# Altium footprint library S7CAS_P07.PcbLib: 10 footprints
Each footprint in its own frame and in the unit in brackets; x right, y up, seen from the top. Pads: shape width x height; smd on the part's side, far side on the other; paste and mask are expansions set on the pad; w line width, h text height; cw(c..) or ccw(c..) is an arc to the next point about the centre after c.
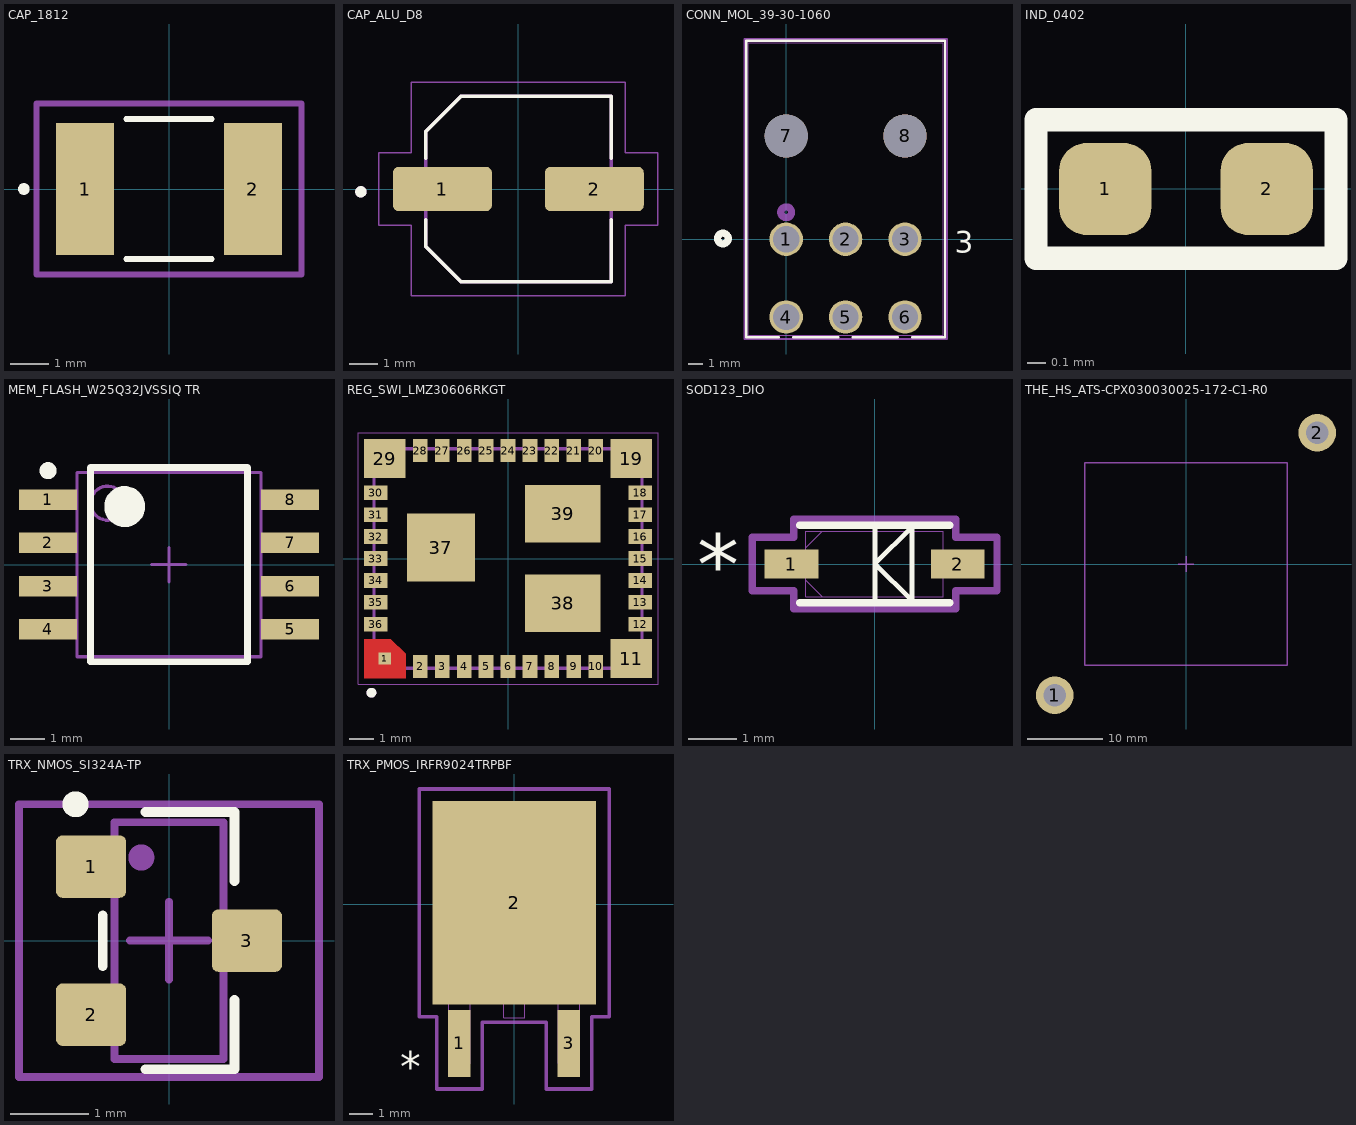
[diagram p0: the footprints below, top view; thin cyan lines are the x and y axes]

## CAP_1812 [mil]
pads (2):
  rect 60x136 smd paste+0 mask+0: 1(-86.5,0) 2(86.5,0)
Top Overlay:
  circle w6: c-149.5,0 r3
  lines w6: -44.03,-72 44.03,-72 ; -44.03,72 44.03,72
Mechanical 15:
  lines w6: -136.5,-88 -136.5,88 136.5,88 136.5,-88 -136.5,-88
3D body: height 10, standoff 0, extent 0,0 10,10
3D body "CAP_1812P_AVX.step": height 60, standoff 0, extent -94.49,-67.01 94.49,67.01

## CAP_ALU_D8 [mm] "Panasonic D8 can SMD"
pads (2):
  rrect25% 3.51x1.58 smd: 1(-2.7,0) 2(2.7,0)
Top Overlay:
  circle w0.2: c-5.6,-0.1 r0.1
  lines w0.127: -3.3,-1.1 -3.3,-2.04 -2.04,-3.3 3.3,-3.3 3.3,-1.1 ; -3.3,1.1 -3.3,2.04 -2.04,3.3 3.3,3.3 3.3,1.1
Mechanical 13:
  circle w0.2: c-5.6,-0.1 r0.1
  lines w0.127: -3.3,-2.04 -2.04,-3.3 3.3,-3.3 3.3,3.3 -2.04,3.3 -3.3,2.04 -3.3,-2.04
Mechanical 15:
  lines w0.05: -4.96,-1.29 -3.8,-1.29 -3.8,-3.8 3.8,-3.8 3.8,-1.29 4.96,-1.29 4.96,1.29 3.8,1.29 3.8,3.8 -3.8,3.8 -3.8,1.29 -4.96,1.29 -4.96,-1.29
3D body "EEE-FKC151XAP.STEP": height 7.95, standoff -0.05, extent -3.9,-3.3 3.9,3.3

## CONN_MOL_39-30-1060 [mil] "6pin MOLEX RA"
pads (8):
  round 93 hole 73 mask+0: 1(0,0) 2(165.35,0) 3(330.71,0) 4(0,-216.54) 5(165.35,-216.54) 6(330.71,-216.54)
  round 120 hole 120 unplated: 7(0,287.4) 8(330.71,287.4)
Top Overlay:
  circle w20: c-176.18,1.97 r15
  lines w6: -19.78,-272.76 -111.15,-272.76 -111.15,552.24 441.85,552.24 441.85,-272.76 350.49,-272.76 ; 19.78,-272.76 145.57,-272.76 ; 185.14,-272.76 310.92,-272.76
  text "3" at 469.65,-38.23 h60
Bottom Overlay:
  circle w20: c-176.18,1.97 r15
Mechanical 13:
  circle w20: c0,75 r15
  lines w1: -106.15,-267.76 436.85,-267.76 436.85,547.24 -106.15,547.24 -106.15,-267.76
Mechanical 15:
  lines w6: -116.15,-277.76 -116.15,557.24 446.85,557.24 446.85,-277.76 -116.15,-277.76
3D body: height 10, standoff 0, extent 0,0 10,10
3D body "39301060.stp": height 448.82, standoff -141.73, extent -122.05,-237.89 437.01,546.95

## IND_0402 [mil]
pads (2):
  rrect60% 20x20 smd: 1(-17.5,0) 2(17.5,0)
Top Overlay:
  lines w5: -32.5,-15 32.5,-15 32.5,15 -32.5,15 -32.5,-15
3D body "Ferrite0402.stp": height 20.08, standoff 0.39, extent -19.69,-10 19.69,9.69

## MEM_FLASH_W25Q32JVSSIQ TR [mm]
pads (8):
  rect 1.7x0.6 smd paste-0.05 mask+0.07: 1(-3.55,1.905) 2(-3.55,0.635) 3(-3.55,-0.635) 4(-3.55,-1.905) 5(3.55,-1.905) 6(3.55,-0.635) 7(3.55,0.635) 8(3.55,1.905)
Top Overlay:
  circle w0.6: c-1.3,1.7 r0.3
  circle w0.25: c-3.55,2.755 r0.125
  lines w0.2: -2.3,-2.85 2.3,-2.85 2.3,2.85 -2.3,2.85 -2.3,-2.85
Mechanical 1:
  circle w0.1: c-1.8,1.8 r0.5
  lines w0.1: -2.7,-2.7 -2.7,2.7 2.7,2.7 2.7,-2.7 -2.7,-2.7
Mechanical 15:
  lines w0.1: -0.5,0 0.5,0 ; 0,-0.5 0,0.5
3D body "SOIC127P790X216-8N.step": height 2.16, standoff 0, extent -3.95,-2.7 3.95,2.7

## REG_SWI_LMZ30606RKGT [mm] "LMZ30602RKGT"
pads (39):
  rect 0.5x0.5 smd paste-1 mask+0: 1(-5.05,-4.1)
  rect 0.6x0.95 smd paste-1 mask+0: 2(-3.6,-4.425) 3(-2.7,-4.425) 4(-1.8,-4.425) 5(-0.9,-4.425) 6(0,-4.425) 7(0.9,-4.425) 8(1.8,-4.425) 9(2.7,-4.425) 10(3.6,-4.425) 20(3.6,4.425) 21(2.7,4.425) 22(1.8,4.425) 23(0.9,4.425) 24(0,4.425) 25(-0.9,4.425) 26(-1.8,4.425) 27(-2.7,4.425) 28(-3.6,4.425)
  rect 1.7x1.6 smd paste-2 mask+0: 11(5.05,-4.1) 19(5.05,4.1) 29(-5.05,4.1)
  rect 0.95x0.6 smd paste-1 mask+0: 12(5.425,-2.7) 13(5.425,-1.8) 14(5.425,-0.9) 15(5.425,0) 16(5.425,0.9) 17(5.425,1.8) 18(5.425,2.7) 30(-5.425,2.7) 31(-5.425,1.8) 32(-5.425,0.9) 33(-5.425,0) 34(-5.425,-0.9) 35(-5.425,-1.8) 36(-5.425,-2.7)
  rect 2.8x2.8 smd paste-2 mask+0: 37(-2.75,0.45)
  rect 3.1x2.35 smd paste-3 mask+0: 38(2.25,-1.83) 39(2.25,1.84)
Top Layer:
  region: -4.2,-3.91 -4.2,-4.9 -5.9,-4.9 -5.9,-3.3 -4.81,-3.3
Top Overlay:
  circle w0.2: c-5.6,-5.5 r0.1
Top Paste:
  drawing of 50 lines, arcs and shapes, not listed
Top Solder:
  region: -4.13,-3.91 -4.13,-4.97 -5.97,-4.97 -5.97,-3.23 -4.81,-3.23
  region: -4.88,-3.07 -5.97,-3.07 -5.97,-2.33 -4.88,-2.33
  region: -4.88,-2.17 -5.97,-2.17 -5.97,-1.43 -4.88,-1.43
  region: -4.88,-1.27 -5.97,-1.27 -5.97,-0.53 -4.88,-0.53
  region: -4.88,-0.37 -5.97,-0.37 -5.97,0.37 -4.88,0.37
  region: -4.88,0.53 -5.97,0.53 -5.97,1.27 -4.88,1.27
  region: -4.88,1.43 -5.97,1.43 -5.97,2.17 -4.88,2.17
  region: -3.23,3.88 -3.97,3.88 -3.97,4.97 -3.23,4.97
  region: -2.33,3.88 -3.07,3.88 -3.07,4.97 -2.33,4.97
  region: -1.43,3.88 -2.17,3.88 -2.17,4.97 -1.43,4.97
  region: -0.53,3.88 -1.27,3.88 -1.27,4.97 -0.53,4.97
  region: 0.37,3.88 -0.37,3.88 -0.37,4.97 0.37,4.97
  region: 2.17,3.88 1.43,3.88 1.43,4.97 2.17,4.97
  region: 1.27,3.88 0.53,3.88 0.53,4.97 1.27,4.97
  region: 3.07,3.88 2.33,3.88 2.33,4.97 3.07,4.97
  region: -4.88,2.33 -5.97,2.33 -5.97,3.07 -4.88,3.07
  region: 3.97,3.88 3.23,3.88 3.23,4.97 3.97,4.97
  region: 5.97,2.33 4.88,2.33 4.88,3.07 5.97,3.07
  region: 5.97,1.43 4.88,1.43 4.88,2.17 5.97,2.17
  region: 5.97,0.53 4.88,0.53 4.88,1.27 5.97,1.27
  region: 5.97,-0.37 4.88,-0.37 4.88,0.37 5.97,0.37
  region: 5.97,-1.27 4.88,-1.27 4.88,-0.53 5.97,-0.53
  region: 5.97,-2.17 4.88,-2.17 4.88,-1.43 5.97,-1.43
  region: 3.97,-4.97 3.23,-4.97 3.23,-3.88 3.97,-3.88
  region: 3.07,-4.97 2.33,-4.97 2.33,-3.88 3.07,-3.88
  region: 2.17,-4.97 1.43,-4.97 1.43,-3.88 2.17,-3.88
  region: 1.27,-4.97 0.53,-4.97 0.53,-3.88 1.27,-3.88
  region: 0.37,-4.97 -0.37,-4.97 -0.37,-3.88 0.37,-3.88
  region: -1.43,-4.97 -2.17,-4.97 -2.17,-3.88 -1.43,-3.88
  region: -0.53,-4.97 -1.27,-4.97 -1.27,-3.88 -0.53,-3.88
  region: -2.33,-4.97 -3.07,-4.97 -3.07,-3.88 -2.33,-3.88
  region: 5.97,-4.97 4.13,-4.97 4.13,-3.23 5.97,-3.23
  region: 5.97,3.23 4.13,3.23 4.13,4.97 5.97,4.97
  region: -4.13,3.23 -5.97,3.23 -5.97,4.97 -4.13,4.97
  region: -1.95,-0.35 -3.55,-0.35 -3.55,1.25 -1.95,1.25
  region: 5.97,-3.07 4.88,-3.07 4.88,-2.33 5.97,-2.33
  region: -3.23,-4.97 -3.97,-4.97 -3.97,-3.88 -3.23,-3.88
Mechanical 13:
  circle w0.2: c-5.6,-5.5 r0.1
  lines w0.127: -5.5,-4.5 -5.5,4.5 5.5,4.5 5.5,-4.5 -5.5,-4.5
Mechanical 15:
  lines w0.05: -6.15,-5.15 -6.15,5.15 6.15,5.15 6.15,-5.15 -6.15,-5.15
3D body "step_temp.STEP": height 2.9, standoff 0, extent -5.5,-4.5 5.5,4.5

## SOD123_DIO [mm]
pads (2):
  rect 1.111x0.601 smd paste+0 mask+0: 1(-1.725,0) 2(1.725,0)
Top Overlay:
  lines w0.1: 0.005,-0.797 0.005,0.797 0,0.802 0,0.009 0.775,-0.766 ; 0.775,-0.766 0.775,0.775 0.005,0.005 0.775,-0.766
  lines w0.152: -1.552,-0.802 1.552,-0.802 ; -1.552,0.802 1.552,0.802
  text "*" at -3.683,-0.635 h1.27
Mechanical 13:
  lines w0.025: -1.425,-0.337 -1.087,-0.675 ; -1.425,0.337 -1.087,0.675 ; -1.925,-0.275 -1.425,-0.275 -1.425,0.275 -1.925,0.275 -1.925,-0.275 ; -1.425,-0.675 -1.425,0.675 1.425,0.675 1.425,-0.675 -1.425,-0.675 ; 1.425,-0.275 1.925,-0.275 1.925,0.275 1.425,0.275 1.425,-0.275
  text "*" at -1.488,-0.635 h1.27
Mechanical 15:
  lines w0.152: -2.535,-0.554 -1.679,-0.554 -1.679,-0.929 1.679,-0.929 1.679,-0.554 2.535,-0.554 2.535,0.554 1.679,0.554 1.679,0.929 -1.679,0.929 -1.679,0.554 -2.535,0.554 -2.535,-0.554
3D body "SOD123_DIO.step": height 0.81, standoff 0, extent -1.925,-0.675 1.925,0.675
3D body: height 0.25, standoff 0, extent 0,0 0.254,0.254

## THE_HS_ATS-CPX030030025-172-C1-R0 [mm]
pads (2):
  round 5 hole 3 paste-7.62 mask+0.07: 1(-17.5,-17.5) 2(17.5,17.5)
Mechanical 1:
  lines w0.2: -1,0 1,0 ; 0,-1 0,1 ; -13.5,-13.5 -13.5,13.5 13.5,13.5 13.5,-13.5 -13.5,-13.5
3D body "ATS-CPX-172-CX-R0_FUSED.STEP": height 27.5, standoff 2.5, extent -21.494,-21.494 21.495,21.495

## TRX_NMOS_SI324A-TP [mm]
pads (3):
  rrect20% 0.9x0.8 smd paste-0.025 mask+0.07: 1(-1,0.95) 2(-1,-0.95) 3(1,0)
Top Overlay:
  circle w0.25: c-1.2,1.75 r0.042
  lines w0.127: -0.85,-0.325 -0.85,0.325 ; -0.3,-1.651 0.838,-1.651 0.838,-0.764 ; -0.3,1.651 0.838,1.651 0.838,0.764
Mechanical 1:
  circle w0.25: c-0.356,1.067 r0.042
  lines w0.1: -0.7,-1.52 -0.7,1.52 0.7,1.52 0.7,-1.52 -0.7,-1.52
Mechanical 15:
  lines w0.1: -0.5,0 0.5,0 ; 0,-0.5 0,0.5 ; -1.925,-1.75 -1.925,1.75 1.925,1.75 1.925,-1.75 -1.925,-1.75
3D body "SOT95P237X122-3N.step": height 1.22, standoff 0, extent -1.32,-1.52 1.32,1.52

## TRX_PMOS_IRFR9024TRPBF [mil] "D-PAK"
pads (3):
  rect 37x110 smd paste+0 mask+0: 1(-90.16,-229.5) 3(90.16,-229.5)
  rect 269x335 smd paste+0 mask+0: 2(0,2)
Top Overlay:
  text "*" at -187.99,-292.32 h50
Mechanical 13:
  lines w1: -17.5,-147.5 -17.5,-187.5 17.5,-187.5 17.5,-147.5 ; -132.5,-147.5 -132.5,147.5 132.5,147.5 132.5,-147.5 -132.5,-147.5 ; -107.66,-262.5 -72.66,-262.5 -72.66,-147.5 -107.66,-147.5 -107.66,-262.5 ; 72.66,-262.5 107.66,-262.5 107.66,-147.5 72.66,-147.5 72.66,-262.5
Mechanical 15:
  lines w6: -156.5,-185.5 -127.66,-185.5 -127.66,-304.5 -52.66,-304.5 -52.66,-194.5 52.66,-194.5 52.66,-304.5 127.66,-304.5 127.66,-185.5 156.5,-185.5 156.5,189.5 -156.5,189.5 -156.5,-185.5
3D body: height 10, standoff 0, extent 0,0 10,10
3D body "DPAK_VIS.step": height 94.09, standoff -2.01, extent -132.52,-220 132.52,147.6